# EAGLE library part CC_3000_WIFI (library SMORSE_Chao)
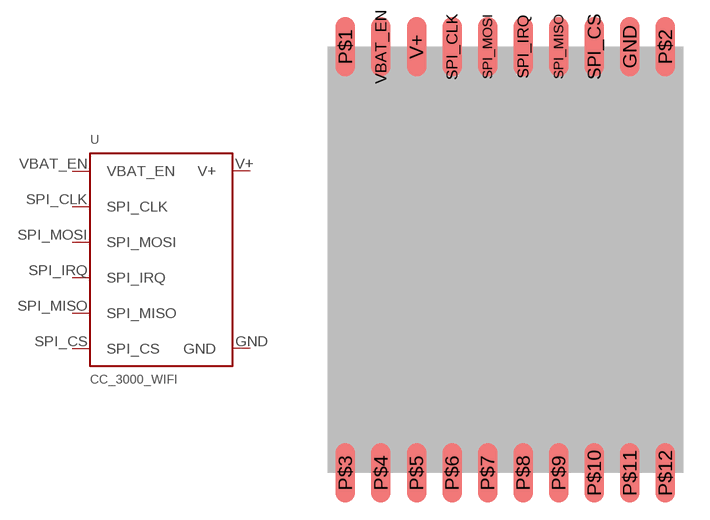
[diagram p12: symbol with the pads of CC3000_WIFI; footprint CC3000_WIFI]

Designator prefix -

## CC_3000_WIFI  [CC3000_WIFI]
GND  GND
SPI_CLK  SPI_CLK
SPI_CS  SPI_CS
SPI_IRQ  SPI_IRQ
SPI_MISO  SPI_MISO
SPI_MOSI  SPI_MOSI
V+  V+
VBAT_EN  VBAT_EN

## Footprint CC3000_WIFI (pad centres in mm)
smd 1.1 x 3.353: GND 17,24; P$1 1,24; P$2 19,24; P$3 1,0; P$4 3,0; P$5 5,0; P$6 7,0; P$7 9,0; P$8 11,0; P$9 13,0; P$10 15,0; P$11 17,0; P$12 19,0; SPI_CLK 7,24; SPI_CS 15,24; SPI_IRQ 11,24; SPI_MISO 13,24; SPI_MOSI 9,24; V+ 5,24; VBAT_EN 3,24